# Altium schematic symbol library ADM2687E.SchLib: 1 symbol
Pins are listed as number, name and electrical type; pins without a type are passive.

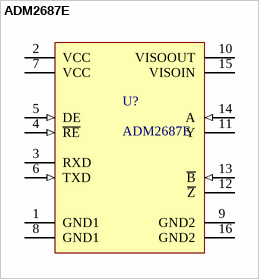
[diagram p0: symbol ADM2687E]

## ADM2687E
designator U?
footprint ADI-RI-16-2_L
footprint ADI-RI-16-2_M
footprint ADI-RI-16-2_N
pins: 1 GND1 (power) "Ground, Logic Side.", 2 VCC (power) "Logic Side Power Supply. It is recommended that a 0.1 µF and a 0.01 µF decoupling capacitor be fitted between Pin 2 and Pin 1.", 3 RXD (hiz) "Receiver Output Data. This output is high when (A - B) >= -30 mV and low when (A - B) <= –200 mV. The output is tristated when the receiver is disabled, that is, when R\E\ is driven high.", 4 ~{RE} (in) "Receiver Enable Input. This is an active-low input. Driving this input low enables the receiver, while driving it high disables the receiver.", 5 DE (in) "Driver Enable Input. Driving this input high enables the driver, while driving it low disables the driver.", 6 TXD (in) "Driver Input. Data to be transmitted by the driver is applied to this input.", 7 VCC (power) "Logic Side Power Supply. It is recommended that a 0.1 µF and a 10 µF decoupling capacitor be fitted between Pin 7 and Pin 8.", 8 GND1 (power) "Ground, Logic Side.", 9 GND2 (power) "Ground, Bus Side.", 10 VISOOUT (power) "Isolated Power Supply Output. This pin must be connected externally to VISOIN. It is recommended that a reservoir capacitor of 10 µF and a decoupling capacitor of 0.1 µF be fitted between Pin 10 and Pin 9.", 11 Y (hiz) "Driver Noninverting Output", 12 ~{Z} (hiz) "Driver Inverting Output", 13 ~{B} (in) "Receiver Inverting Input.", 14 A (in) "Receiver Noninverting Input.", 15 VISOIN (power) "Isolated Power Supply Input. This pin must be connected externally to VISOOUT. It is recommended that a 0.1 µF and a 0.01 µF decoupling capacitor be fitted between Pin 15 and Pin 16.", 16 GND2 (power) "Ground, Bus Side."